# EAGLE library part ATMEGA32U4 (library processors)
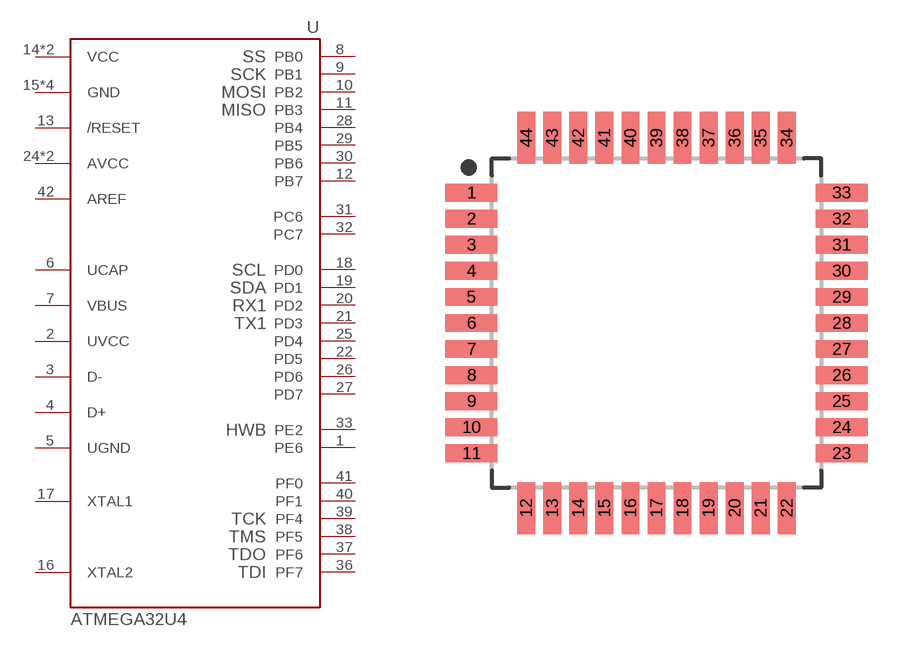
[diagram p1: symbol with the pads of TQFP44; footprint TQFP44]

Designator prefix -

## ATMEGA32U4-AU  [TQFP44]
1  PE6
2  UVCC
3  D-
4  D+
5  UGND
6  UCAP
7  VBUS
8  PB0
9  PB1
10  PB2
11  PB3
12  PB7
13  /RESET
14  VCC
15  GND
16  XTAL2
17  XTAL1
18  PD0
19  PD1
20  PD2
21  PD3
22  PD5
23  GND
24  AVCC
25  PD4
26  PD6
27  PD7
28  PB4
29  PB5
30  PB6
31  PC6
32  PC7
33  PE2
34  VCC
35  GND
36  PF7
37  PF6
38  PF5
39  PF4
40  PF1
41  PF0
42  AREF
43  GND
44  AVCC

## Footprint TQFP44 (pad centres in mm)
44-QFP, 0.8 mm pitch, 12 mm span, 10 X 10 X 1.2 mm body 44-pin QFP package with 0.8 mm pitch, 12 mm lead span1 X 12 mm lead span2 with body size 10 X 10 X 1.2 mm
smd 1.6 x 0.547: 1 -5.681,4; 2 -5.681,3.2; 3 -5.681,2.4; 4 -5.681,1.6; 5 -5.681,0.8; 6 -5.681,0; 7 -5.681,-0.8; 8 -5.681,-1.6; 9 -5.681,-2.4; 10 -5.681,-3.2; 11 -5.681,-4; 23 5.681,-4; 24 5.681,-3.2; 25 5.681,-2.4; 26 5.681,-1.6; 27 5.681,-0.8; 28 5.681,0; 29 5.681,0.8; 30 5.681,1.6; 31 5.681,2.4; 32 5.681,3.2; 33 5.681,4
smd 0.547 x 1.6: 12 -4,-5.681; 13 -3.2,-5.681; 14 -2.4,-5.681; 15 -1.6,-5.681; 16 -0.8,-5.681; 17 0,-5.681; 18 0.8,-5.681; 19 1.6,-5.681; 20 2.4,-5.681; 21 3.2,-5.681; 22 4,-5.681; 34 4,5.681; 35 3.2,5.681; 36 2.4,5.681; 37 1.6,5.681; 38 0.8,5.681; 39 0,5.681; 40 -0.8,5.681; 41 -1.6,5.681; 42 -2.4,5.681; 43 -3.2,5.681; 44 -4,5.681